# Altium footprint library 贴片元器件.PCBLIB: 208 footprints (part 5 of 13)
Each footprint in its own frame and in the unit in brackets; x right, y up, seen from the top. Pads: shape width x height; smd on the part's side, far side on the other; paste and mask are expansions set on the pad; w line width, h text height; cw(c..) or ccw(c..) is an arc to the next point about the centre after c.
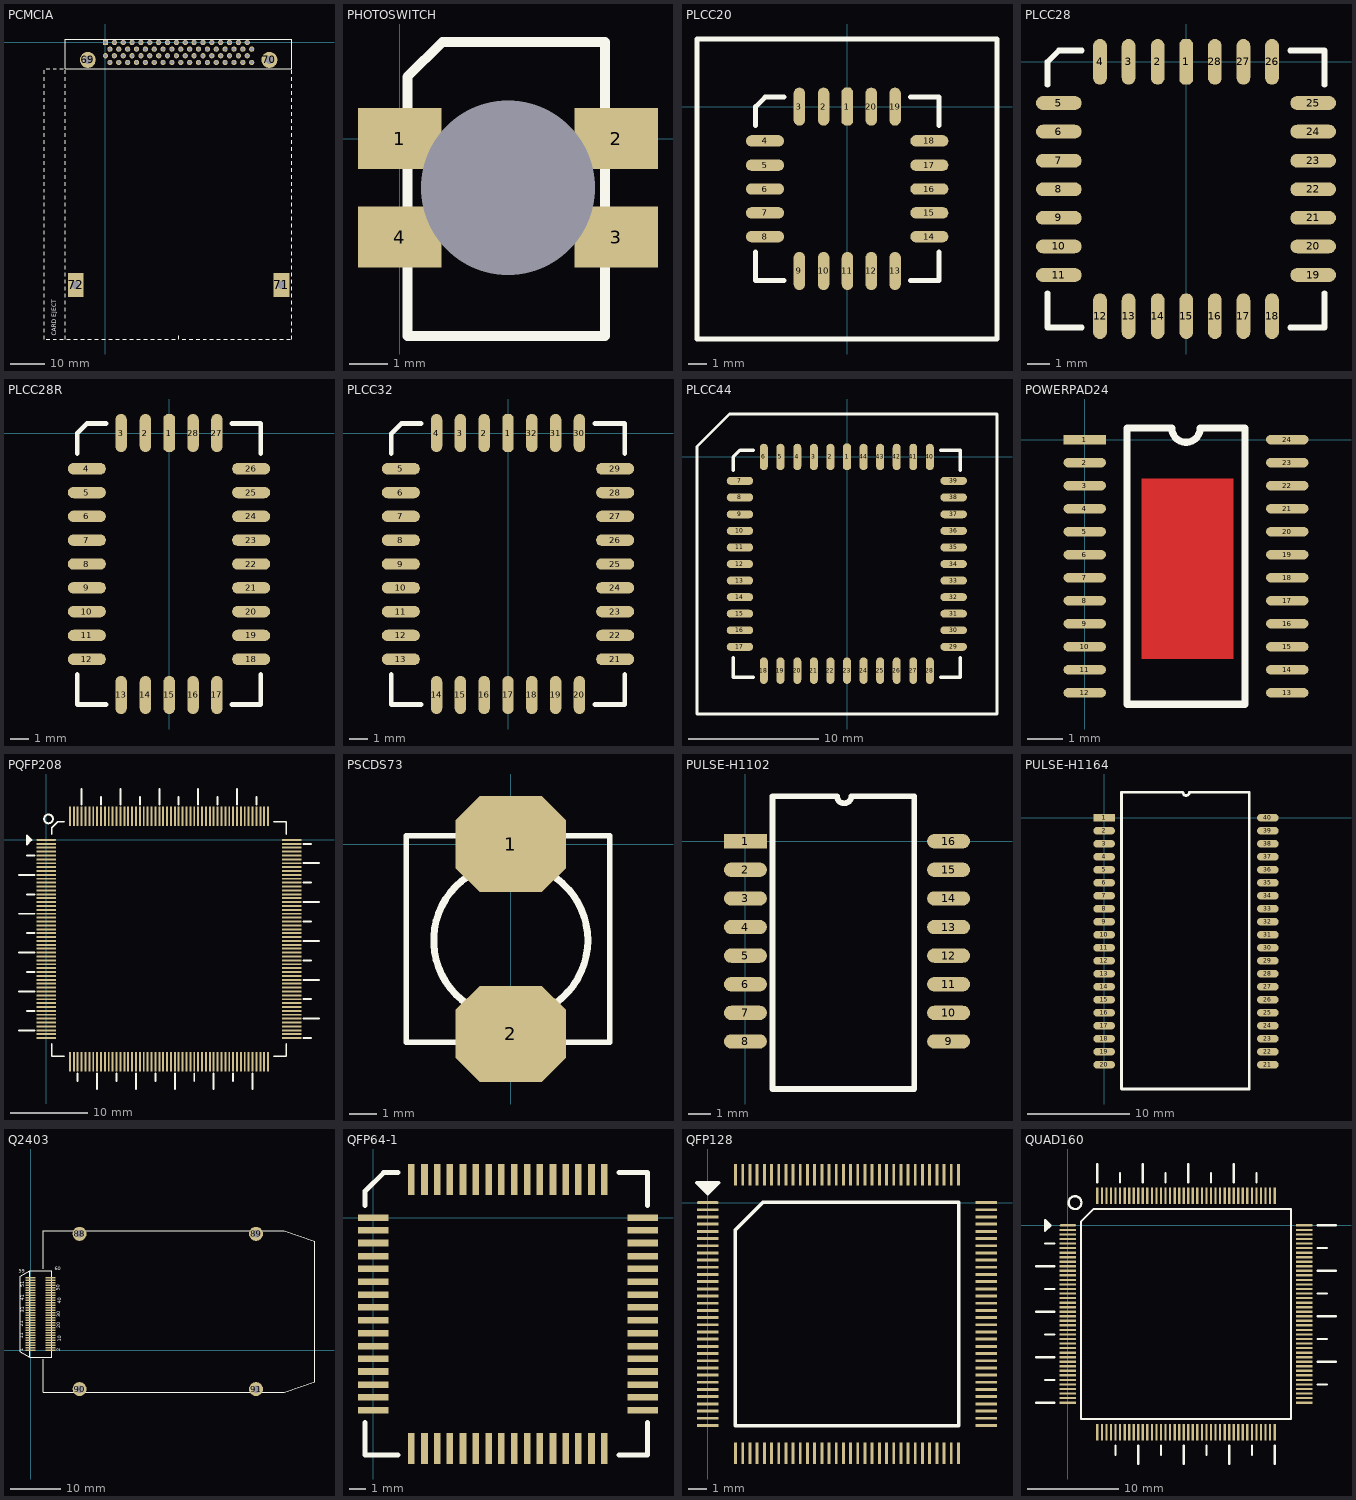
[diagram p4: the footprints below, top view; thin cyan lines are the x and y axes]

## PCMCIA [mm]
pads (72):
  rect 1.5x1.5 hole 1: 1(0,0)
  round 1.5 hole 1: 2(1.27,-1.905) 3(2.54,0) 4(3.81,-1.905) 5(5.08,0) 6(6.35,-1.905) 7(7.62,0) 8(8.89,-1.905) 9(10.16,0) 10(11.43,-1.905) 11(12.7,0) 12(13.97,-1.905) 13(15.24,0) 14(16.51,-1.905) 15(17.78,0) 16(19.05,-1.905) 17(20.32,0) 18(21.59,-1.905) 19(22.86,0) 20(24.13,-1.905) 21(25.4,0) 22(26.67,-1.905) 23(27.94,0) 24(29.21,-1.905) 25(30.48,0) 26(31.75,-1.905) 27(33.02,0) 28(34.29,-1.905) 29(35.56,0) 30(36.83,-1.905) 31(38.1,0) 32(39.37,-1.905) 33(40.64,0) 34(41.91,-1.905) 35(0,-3.81) 36(1.27,-5.715) 37(2.54,-3.81) 38(3.81,-5.715) 39(5.08,-3.81) 40(6.35,-5.715) 41(7.62,-3.81) 42(8.89,-5.715) 43(10.16,-3.81) 44(11.43,-5.715) 45(12.7,-3.81) 46(13.97,-5.715) 47(15.24,-3.81) 48(16.51,-5.715) 49(17.78,-3.81) 50(19.05,-5.715) 51(20.32,-3.81) 52(21.59,-5.715) 53(22.86,-3.81) 54(24.13,-5.715) 55(25.4,-3.81) 56(26.67,-5.715) 57(27.94,-3.81) 58(29.21,-5.715) 59(30.48,-3.81) 60(31.75,-5.715) 61(33.02,-3.81) 62(34.29,-5.715) 63(35.56,-3.81) 64(36.83,-5.715) 65(38.1,-3.81) 66(39.37,-5.715) 67(40.64,-3.81) 68(41.91,-5.715)
  round 4.6 hole 2.3: 69(-5.08,-5.015) 70(46.99,-5.015)
  rect 4.5x7 hole 2.3: 71(50.455,-69.515) 72(-8.545,-69.515)
TopOverlay:
  drawing of 160 lines, arcs and shapes, not listed
  text "CARD EJECT" at -14.045,-84 h1.27
BottomOverlay:
  text "1" at -1,-0.5 h1.02
  text "2" at 0.27,-2.405 h1.02
  text "35" at -1,-4.31 h1.02
  text "36" at 0.27,-6.215 h1.02

## PHOTOSWITCH [mil]
pads (5):
  rect 0x0 hole 177.16: 0(110,-50)
  rect 85x62 smd: 1(0,0) 2(220,0) 3(220,-100) 4(0,-100)
TopOverlay:
  lines w10: 7.87,-200.79 7.87,62.99 43.31,98.42 208.66,98.42 208.66,-200.79 7.87,-200.79

## PLCC20 [mil]
pads (20):
  oct 24x80 smd: 1(0,0)
  oval 24x80 smd: 2(-50,0) 3(-101,0) 9(-101,-345) 10(-50,-345) 11(0,-345) 12(50,-345) 13(100,-345) 19(100,0) 20(50,0)
  oval 80x24 smd: 4(-173,-72) 5(-173,-123) 6(-173,-173) 7(-173,-223) 8(-173,-273) 14(172,-273) 15(172,-223) 16(172,-173) 17(172,-123) 18(172,-72)
TopOverlay:
  lines w10: -193,-305 -193,-365 -133,-365 ; -193,-40 -193,0 -173,20 -133,20 ; 132,-365 192,-365 192,-305 ; 132,20 192,20 192,-40 ; -315.92,-487.92 -315.92,142 314,142 314,-487.92 -315.92,-487.92

## PLCC28 [mil]
pads (28):
  oct 24x80 smd: 1(0,0)
  oval 24x80 smd: 2(-50,0) 3(-101,0) 4(-151,0) 12(-151,-445) 13(-101,-445) 14(-50,-445) 15(0,-445) 16(50,-445) 17(100,-445) 18(150,-445) 26(150,0) 27(100,0) 28(50,0)
  oval 80x24 smd: 5(-223,-72) 6(-223,-122) 7(-223,-173) 8(-223,-223) 9(-223,-273) 10(-223,-323) 11(-223,-373) 19(222,-373) 20(222,-323) 21(222,-273) 22(222,-223) 23(222,-173) 24(222,-122) 25(222,-72)
TopOverlay:
  lines w10: -243,-405 -243,-465 -183,-465 ; -243,-40 -243,0 -223,20 -183,20 ; 182,-465 242,-465 242,-405 ; 182,20 242,20 242,-40

## PLCC28R [mil]
pads (28):
  oct 24x80 smd: 1(0,0)
  oval 24x80 smd: 2(-50,0) 3(-101,0) 13(-101,-550) 14(-50,-550) 15(0,-550) 16(50,-550) 17(100,-550) 27(100,0) 28(50,0)
  oval 80x24 smd: 4(-173,-75) 5(-173,-125) 6(-173,-175) 7(-173,-225) 8(-173,-275) 9(-173,-325) 10(-173,-375) 11(-173,-425) 12(-173,-475) 18(172,-475) 19(172,-425) 20(172,-375) 21(172,-325) 22(172,-275) 23(172,-225) 24(172,-175) 25(172,-125) 26(172,-75)
TopOverlay:
  lines w10: -193,-507 -193,-570 -133,-570 ; -193,-43 -193,0 -173,20 -133,20 ; 132,-570 192,-570 192,-507 ; 132,20 192,20 192,-43

## PLCC32 [mil]
pads (32):
  oct 24x80 smd: 1(0,0)
  oval 24x80 smd: 2(-50,0) 3(-100,0) 4(-150,0) 14(-150,-550) 15(-100,-550) 16(-50,-550) 17(0,-550) 18(50,-550) 19(100,-550) 20(150,-550) 30(150,0) 31(100,0) 32(50,0)
  oval 80x24 smd: 5(-225,-75) 6(-225,-125) 7(-225,-175) 8(-225,-225) 9(-225,-275) 10(-225,-325) 11(-225,-375) 12(-225,-425) 13(-225,-475) 21(225,-475) 22(225,-425) 23(225,-375) 24(225,-325) 25(225,-275) 26(225,-225) 27(225,-175) 28(225,-125) 29(225,-75)
TopOverlay:
  lines w10: -245,-507 -245,-570 -182,-570 ; -245,-43 -245,-1 -224,20 -182,20 ; 182,-570 245,-570 245,-507 ; 182,20 245,20 245,-43

## PLCC44 [mil]
pads (44):
  oct 24x80 smd: 1(0,0)
  oval 24x80 smd: 2(-50,0) 3(-100,0) 4(-150,0) 5(-201,0) 6(-251,0) 18(-251,-645) 19(-201,-645) 20(-150,-645) 21(-100,-645) 22(-50,-645) 23(0,-645) 24(50,-645) 25(100,-645) 26(150,-645) 27(200,-645) 28(250,-645) 40(250,0) 41(200,0) 42(150,0) 43(100,0) 44(50,0)
  oval 80x24 smd: 7(-323,-72) 8(-323,-122) 9(-323,-173) 10(-323,-223) 11(-323,-273) 12(-323,-323) 13(-323,-373) 14(-323,-423) 15(-323,-473) 16(-323,-523) 17(-323,-573) 29(322,-573) 30(322,-523) 31(322,-473) 32(322,-423) 33(322,-373) 34(322,-323) 35(322,-273) 36(322,-223) 37(322,-173) 38(322,-122) 39(322,-72)
TopOverlay:
  lines w8: -452.76,-775.76 452.76,-775.76 452.76,129.76 -354.33,129.76 -452.76,31.33 -452.76,-775.76
  lines w10: -343,-605 -343,-665 -283,-665 ; -343,-40 -343,0 -323,20 -283,20 ; 282,-665 342,-665 342,-605 ; 282,20 342,20 342,-40

## POWERPAD24 [mm]
pads (24):
  rect 1.2x0.27 smd: 1(0,0)
  oval 1.2x0.27 smd: 2(0,-0.65) 3(0,-1.3) 4(0,-1.95) 5(0,-2.6) 6(0,-3.25) 7(0,-3.9) 8(0,-4.55) 9(0,-5.2) 10(0,-5.85) 11(0,-6.5) 12(0,-7.15) 13(5.72,-7.15) 14(5.72,-6.5) 15(5.72,-5.85) 16(5.72,-5.2) 17(5.72,-4.55) 18(5.72,-3.9) 19(5.72,-3.25) 20(5.72,-2.6) 21(5.72,-1.95) 22(5.72,-1.3) 23(5.72,-0.65) 24(5.72,0)
TopLayer:
  rectangle: 1.6,-6.2 4.2,-1.1
TopOverlay:
  lines w0.2: 1.197,-7.475 4.523,-7.475 4.523,0.325 3.26,0.325 cw(c2.86,0.325) 2.46,0.325 1.197,0.325 1.197,-7.475

## PQFP208 [mm]
pads (208):
  oval 2.5x0.25 smd: 1(0,0)
  rect 2.5x0.25 smd: 2(0,-0.5) 3(0,-1) 4(0,-1.5) 5(0,-2) 6(0,-2.5) 7(0,-3) 8(0,-3.5) 9(0,-4) 10(0,-4.5) 11(0,-5) 12(0,-5.5) 13(0,-6) 14(0,-6.5) 15(0,-7) 16(0,-7.5) 17(0,-8) 18(0,-8.5) 19(0,-9) 20(0,-9.5) 21(0,-10) 22(0,-10.5) 23(0,-11) 24(0,-11.5) 25(0,-12) 26(0,-12.5) 27(0,-13) 28(0,-13.5) 29(0,-14) 30(0,-14.5) 31(0,-15) 32(0,-15.5) 33(0,-16) 34(0,-16.5) 35(0,-17) 36(0,-17.5) 37(0,-18) 38(0,-18.5) 39(0,-19) 40(0,-19.5) 41(0,-20) 42(0,-20.5) 43(0,-21) 44(0,-21.5) 45(0,-22) 46(0,-22.5) 47(0,-23) 48(0,-23.5) 49(0,-24) 50(0,-24.5) 51(0,-25) 52(0,-25.5) 105(31.6,-25.5) 106(31.6,-25) 107(31.6,-24.5) 108(31.6,-24) 109(31.6,-23.5) 110(31.6,-23) 111(31.6,-22.5) 112(31.6,-22) 113(31.6,-21.5) 114(31.6,-21) 115(31.6,-20.5) 116(31.6,-20) 117(31.6,-19.5) 118(31.6,-19) 119(31.6,-18.5) 120(31.6,-18) 121(31.6,-17.5) 122(31.6,-17) 123(31.6,-16.5) 124(31.6,-16) 125(31.6,-15.5) 126(31.6,-15) 127(31.6,-14.5) 128(31.6,-14) 129(31.6,-13.5) 130(31.6,-13) 131(31.6,-12.5) 132(31.6,-12) 133(31.6,-11.5) 134(31.6,-11) 135(31.6,-10.5) 136(31.6,-10) 137(31.6,-9.5) 138(31.6,-9) 139(31.6,-8.5) 140(31.6,-8) 141(31.6,-7.5) 142(31.6,-7) 143(31.6,-6.5) 144(31.6,-6) 145(31.6,-5.5) 146(31.6,-5) 147(31.6,-4.5) 148(31.6,-4) 149(31.6,-3.5) 150(31.6,-3) 151(31.6,-2.5) 152(31.6,-2) 153(31.6,-1.5) 154(31.6,-1) 155(31.6,-0.5) 156(31.6,0)
  rect 0.25x2.5 smd: 53(3.05,-28.55) 54(3.55,-28.55) 55(4.05,-28.55) 56(4.55,-28.55) 57(5.05,-28.55) 58(5.55,-28.55) 59(6.05,-28.55) 60(6.55,-28.55) 61(7.05,-28.55) 62(7.55,-28.55) 63(8.05,-28.55) 64(8.55,-28.55) 65(9.05,-28.55) 66(9.55,-28.55) 67(10.05,-28.55) 68(10.55,-28.55) 69(11.05,-28.55) 70(11.55,-28.55) 71(12.05,-28.55) 72(12.55,-28.55) 73(13.05,-28.55) 74(13.55,-28.55) 75(14.05,-28.55) 76(14.55,-28.55) 77(15.05,-28.55) 78(15.55,-28.55) 79(16.05,-28.55) 80(16.55,-28.55) 81(17.05,-28.55) 82(17.55,-28.55) 83(18.05,-28.55) 84(18.55,-28.55) 85(19.05,-28.55) 86(19.55,-28.55) 87(20.05,-28.55) 88(20.55,-28.55) 89(21.05,-28.55) 90(21.55,-28.55) 91(22.05,-28.55) 92(22.55,-28.55) 93(23.05,-28.55) 94(23.55,-28.55) 95(24.05,-28.55) 96(24.55,-28.55) 97(25.05,-28.55) 98(25.55,-28.55) 99(26.05,-28.55) 100(26.55,-28.55) 101(27.05,-28.55) 102(27.55,-28.55) 103(28.05,-28.55) 104(28.55,-28.55) 157(28.55,3.05) 158(28.05,3.05) 159(27.55,3.05) 160(27.05,3.05) 161(26.55,3.05) 162(26.05,3.05) 163(25.55,3.05) 164(25.05,3.05) 165(24.55,3.05) 166(24.05,3.05) 167(23.55,3.05) 168(23.05,3.05) 169(22.55,3.05) 170(22.05,3.05) 171(21.55,3.05) 172(21.05,3.05) 173(20.55,3.05) 174(20.05,3.05) 175(19.55,3.05) 176(19.05,3.05) 177(18.55,3.05) 178(18.05,3.05) 179(17.55,3.05) 180(17.05,3.05) 181(16.55,3.05) 182(16.05,3.05) 183(15.55,3.05) 184(15.05,3.05) 185(14.55,3.05) 186(14.05,3.05) 187(13.55,3.05) 188(13.05,3.05) 189(12.55,3.05) 190(12.05,3.05) 191(11.55,3.05) 192(11.05,3.05) 193(10.55,3.05) 194(10.05,3.05) 195(9.55,3.05) 196(9.05,3.05) 197(8.55,3.05) 198(8.05,3.05) 199(7.55,3.05) 200(7.05,3.05) 201(6.55,3.05) 202(6.05,3.05) 203(5.55,3.05) 204(5.05,3.05) 205(4.55,3.05) 206(4.05,3.05) 207(3.55,3.05) 208(3.05,3.05)
TopOverlay:
  circle w0.254: c0.3,2.7 r0.566
  lines w0.2: 0.7,-26.2 0.7,-27.85 2.35,-27.85 ; 0.7,0.7 0.7,1.55 1.5,2.35 2.35,2.35 ; 29.25,-27.85 30.9,-27.85 30.9,-26.2 ; 29.25,2.35 30.9,2.35 30.9,0.7
  lines w0.254: -3.5,-24.5 -1.5,-24.5 ; -3.5,-19.5 -1.5,-19.5 ; -3.5,-14.5 -1.5,-14.5 ; -3.5,-9.5 -1.5,-9.5 ; -3.5,-4.5 -1.5,-4.5 ; -2.5,-22 -1.5,-22 ; -2.5,-17 -1.5,-17 ; -2.5,-12 -1.5,-12 ; -2.5,-7 -1.5,-7 ; -2.5,-2 -1.5,-2 ; -2.4,-0.2 -2.2,0 -2.5,0.3 -2.5,0.6 ; 4.05,-31.05 4.05,-30.05 ; 4.55,4.55 4.55,6.55 ; 6.55,-32.05 6.55,-30.05 ; 7.05,4.55 7.05,5.55 ; 9.05,-31.05 9.05,-30.05 ; 9.55,4.55 9.55,6.55 ; 11.55,-32.05 11.55,-30.05 ; 12.05,4.55 12.05,5.55 ; 14.05,-31.05 14.05,-30.05 ; 14.55,4.55 14.55,6.55 ; 16.55,-32.05 16.55,-30.05 ; 17.05,4.55 17.05,5.55 ; 19.05,-31.05 19.05,-30.05 ; 19.55,4.55 19.55,6.55 ; 21.55,-32.05 21.55,-30.05 ; 22.05,4.55 22.05,5.55 ; 24.05,-31.05 24.05,-30.05 ; 24.55,4.55 24.55,6.55 ; 26.55,-32.05 26.55,-30.05 ; 27.05,4.55 27.05,5.55 ; 33.1,-25.5 34.1,-25.5 ; 33.1,-23 35.1,-23 ; 33.1,-20.5 34.1,-20.5 ; 33.1,-18 35.1,-18 ; 33.1,-15.5 34.1,-15.5 ; 33.1,-13 35.1,-13 ; 33.1,-10.5 34.1,-10.5 ; 33.1,-8 35.1,-8 ; 33.1,-5.5 34.1,-5.5 ; 33.1,-3 35.1,-3 ; 33.1,-0.5 34.1,-0.5 ; -2.5,0.6 -1.9,0 -2.5,-0.6 -2.5,0.6

## PSCDS73 [mm]
pads (2):
  oct 4x3.5 smd: 1(0,0) 2(0,-6.9)
TopOverlay:
  circle w0.254: c0,-3.5 r2.8
  lines w0.2: -3.8,-7.2 -3.8,0.3 3.6,0.3 3.6,-7.2 -3.8,-7.2

## PULSE-H1102 [mil]
pads (16):
  rect 75x25 smd: 1(0,0)
  oval 75x25 smd: 2(0,-50) 3(0,-100) 4(0,-150) 5(0,-200) 6(0,-250) 7(0,-300) 8(0,-350) 9(355,-350) 10(355,-300) 11(355,-250) 12(355,-200) 13(355,-150) 14(355,-100) 15(355,-50) 16(355,0)
TopOverlay:
  lines w10: 47.24,-433.07 295.28,-433.07 295.28,78.74 185.04,78.74 cw(c172.54,78.74) 160.04,78.74 47.24,78.74 47.24,-433.07

## PULSE-H1164 [mil]
pads (40):
  rect 83x30 smd: 1(0,0)
  oval 83x30 smd: 2(0,-50) 3(0,-100) 4(0,-150) 5(0,-200) 6(0,-250) 7(0,-300) 8(0,-350) 9(0,-400) 10(0,-450) 11(0,-500) 12(0,-550) 13(0,-600) 14(0,-650) 15(0,-700) 16(0,-750) 17(0,-800) 18(0,-850) 19(0,-900) 20(0,-950) 21(629.92,-950) 22(629.92,-900) 23(629.92,-850) 24(629.92,-800) 25(629.92,-750) 26(629.92,-700) 27(629.92,-650) 28(629.92,-600) 29(629.92,-550) 30(629.92,-500) 31(629.92,-450) 32(629.92,-400) 33(629.92,-350) 34(629.92,-300) 35(629.92,-250) 36(629.92,-200) 37(629.92,-150) 38(629.92,-100) 39(629.92,-50) 40(629.92,0)
TopOverlay:
  lines w10: 66.93,-1043.31 559.05,-1043.31 559.05,98.42 328.15,98.42 cw(c315.65,98.42) 303.15,98.42 66.93,98.42 66.93,-1043.31

## Q2403 [mm]
pads (67):
  rect 2x0.3 smd: 1(0,0) 2(4,0) 3(0,0.5) 4(4,0.5) 5(0,1) 6(4,1) 7(0,1.5) 8(4,1.5) 9(0,2) 10(4,2) 11(0,2.5) 12(4,2.5) 13(0,3) 14(4,3) 15(0,3.5) 16(4,3.5) 17(0,4) 18(4,4) 19(0,4.5) 20(4,4.5) 21(0,5) 22(4,5) 23(0,5.5) 24(4,5.5) 25(0,6) 26(4,6) 27(0,6.5) 28(4,6.5) 29(0,7) 30(4,7) 31(0,7.5) 32(4,7.5) 33(0,8) 34(4,8) 35(0,8.5) 36(4,8.5) 37(0,9) 38(4,9) 39(0,9.5) 40(4,9.5) 41(0,10) 42(4,10) 43(0,10.5) 44(4,10.5) 45(0,11) 46(4,11) 47(0,11.5) 48(4,11.5) 49(0,12) 50(4,12) 51(0,12.5) 52(4,12.5) 53(0,13) 54(4,13) 55(0,13.5) 56(4,13.5) 57(0,14) 58(4,14) 59(0,14.5) 60(4,14.5)
  rect 0x0 smd: 10(50.996,20.95) 11(49.546,19.05) 12(49.546,22.85)
  round 2.8 hole 1.5: 88(9.766,23.22) 89(44.916,23.22) 90(9.766,-7.72) 91(44.916,-7.72)
TopOverlay:
  lines w0.2: 2.496,-1.75 2.496,-8.35 50.496,-8.35 56.596,-6.25 56.596,21.75 50.496,23.85 2.496,23.85 2.496,16.25 ; -0.204,-1.35 4.196,-1.35 4.196,15.85 -0.204,15.85 ; -0.204,-1.35 -0.204,15.85 ; -0.204,-1.35 -2.004,-0.25 -2.004,14.75 -0.204,15.85
  text "59" at -2.299,15.473 h0.76
  text "60" at 4.813,15.981 h0.76
  text "1" at -1.41,-0.148 h0.76
  text "2" at 5.956,-0.148 h0.76
  text "11" at -1.41,2.265 h0.76
  text "21" at -1.41,4.678 h0.76
  text "41" at -1.283,9.885 h0.76
  text "31" at -1.283,7.472 h0.76
  text "40" at 6.083,9.25 h0.76
  text "20" at 5.956,4.424 h0.76
  text "30" at 5.956,6.583 h0.76
  text "10" at 6.083,1.757 h0.76
  text "51" at -1.283,12.552 h0.76
  text "50" at 5.829,11.917 h0.76

## QFP64-1 [mil]
pads (64):
  rect 75x16 smd: 1(0,0) 2(0,-31) 3(0,-62) 4(0,-94) 5(0,-125) 6(0,-157) 7(0,-188) 8(0,-219) 9(0,-251) 10(0,-282) 11(0,-314) 12(0,-345) 13(0,-376) 14(0,-408) 15(0,-439) 16(0,-471) 33(658,-471) 34(658,-439) 35(658,-408) 36(658,-376) 37(658,-345) 38(658,-314) 39(658,-282) 40(658,-251) 41(658,-219) 42(658,-188) 43(658,-157) 44(658,-125) 45(658,-94) 46(658,-62) 47(658,-31) 48(658,0)
  rect 16x75 smd: 17(93,-564) 18(125,-564) 19(156,-564) 20(187,-564) 21(219,-564) 22(250,-564) 23(282,-564) 24(313,-564) 25(344,-564) 26(376,-564) 27(407,-564) 28(439,-564) 29(470,-564) 30(501,-564) 31(533,-564) 32(564,-564) 49(564,93) 50(533,93) 51(501,93) 52(470,93) 53(439,93) 54(407,93) 55(376,93) 56(344,93) 57(313,93) 58(282,93) 59(250,93) 60(219,93) 61(187,93) 62(156,93) 63(125,93) 64(93,93)
TopOverlay:
  lines w12: -20,-500 -20,-580 60,-580 ; -20,30 -20,65 25,110 60,110 ; 600,-580 670,-580 670,-500 ; 600,110 670,110 670,30

## QFP128 [mm]
pads (128):
  oval 1.2x0.16 smd: 1(0,0)
  rect 1.2x0.16 smd: 2(0,-0.4) 3(0,-0.8) 4(0,-1.2) 5(0,-1.6) 6(0,-2) 7(0,-2.4) 8(0,-2.8) 9(0,-3.2) 10(0,-3.6) 11(0,-4) 12(0,-4.4) 13(0,-4.8) 14(0,-5.2) 15(0,-5.6) 16(0,-6) 17(0,-6.4) 18(0,-6.8) 19(0,-7.2) 20(0,-7.6) 21(0,-8) 22(0,-8.4) 23(0,-8.8) 24(0,-9.2) 25(0,-9.6) 26(0,-10) 27(0,-10.4) 28(0,-10.8) 29(0,-11.2) 30(0,-11.6) 31(0,-12) 32(0,-12.4) 65(15.5,-12.4) 66(15.5,-12) 67(15.5,-11.6) 68(15.5,-11.2) 69(15.5,-10.8) 70(15.5,-10.4) 71(15.5,-10) 72(15.5,-9.6) 73(15.5,-9.2) 74(15.5,-8.8) 75(15.5,-8.4) 76(15.5,-8) 77(15.5,-7.6) 78(15.5,-7.2) 79(15.5,-6.8) 80(15.5,-6.4) 81(15.5,-6) 82(15.5,-5.6) 83(15.5,-5.2) 84(15.5,-4.8) 85(15.5,-4.4) 86(15.5,-4) 87(15.5,-3.6) 88(15.5,-3.2) 89(15.5,-2.8) 90(15.5,-2.4) 91(15.5,-2) 92(15.5,-1.6) 93(15.5,-1.2) 94(15.5,-0.8) 95(15.5,-0.4) 96(15.5,0)
  rect 0.16x1.2 smd: 33(1.55,-13.95) 34(1.95,-13.95) 35(2.35,-13.95) 36(2.75,-13.95) 37(3.15,-13.95) 38(3.55,-13.95) 39(3.95,-13.95) 40(4.35,-13.95) 41(4.75,-13.95) 42(5.15,-13.95) 43(5.55,-13.95) 44(5.95,-13.95) 45(6.35,-13.95) 46(6.75,-13.95) 47(7.15,-13.95) 48(7.55,-13.95) 49(7.95,-13.95) 50(8.35,-13.95) 51(8.75,-13.95) 52(9.15,-13.95) 53(9.55,-13.95) 54(9.95,-13.95) 55(10.35,-13.95) 56(10.75,-13.95) 57(11.15,-13.95) 58(11.55,-13.95) 59(11.95,-13.95) 60(12.35,-13.95) 61(12.75,-13.95) 62(13.15,-13.95) 63(13.55,-13.95) 64(13.95,-13.95) 97(13.95,1.55) 98(13.55,1.55) 99(13.15,1.55) 100(12.75,1.55) 101(12.35,1.55) 102(11.95,1.55) 103(11.55,1.55) 104(11.15,1.55) 105(10.75,1.55) 106(10.35,1.55) 107(9.95,1.55) 108(9.55,1.55) 109(9.15,1.55) 110(8.75,1.55) 111(8.35,1.55) 112(7.95,1.55) 113(7.55,1.55) 114(7.15,1.55) 115(6.75,1.55) 116(6.35,1.55) 117(5.95,1.55) 118(5.55,1.55) 119(5.15,1.55) 120(4.75,1.55) 121(4.35,1.55) 122(3.95,1.55) 123(3.55,1.55) 124(3.15,1.55) 125(2.75,1.55) 126(2.35,1.55) 127(1.95,1.55) 128(1.55,1.55)
TopOverlay:
  lines w0.2: 1.535,-12.415 13.965,-12.415 13.965,0.015 3.07,0.015 1.535,-1.52 1.535,-12.415
  lines w0.203: -0.4,1 0.5,1 ; -0.199,0.799 0.299,0.799 ; -0.171,0.671 0.171,0.671 ; -0.6,1.1 0.6,1.1 0,0.5 -0.6,1.1

## QUAD160 [mm]
pads (160):
  oval 1.8x0.254 smd: 1(0,0)
  rect 1.8x0.254 smd: 2(0,-0.5) 3(0,-1) 4(0,-1.5) 5(0,-2) 6(0,-2.5) 7(0,-3) 8(0,-3.5) 9(0,-4) 10(0,-4.5) 11(0,-5) 12(0,-5.5) 13(0,-6) 14(0,-6.5) 15(0,-7) 16(0,-7.5) 17(0,-8) 18(0,-8.5) 19(0,-9) 20(0,-9.5) 21(0,-10) 22(0,-10.5) 23(0,-11) 24(0,-11.5) 25(0,-12) 26(0,-12.5) 27(0,-13) 28(0,-13.5) 29(0,-14) 30(0,-14.5) 31(0,-15) 32(0,-15.5) 33(0,-16) 34(0,-16.5) 35(0,-17) 36(0,-17.5) 37(0,-18) 38(0,-18.5) 39(0,-19) 40(0,-19.5) 81(26,-19.5) 82(26,-19) 83(26,-18.5) 84(26,-18) 85(26,-17.5) 86(26,-17) 87(26,-16.5) 88(26,-16) 89(26,-15.5) 90(26,-15) 91(26,-14.5) 92(26,-14) 93(26,-13.5) 94(26,-13) 95(26,-12.5) 96(26,-12) 97(26,-11.5) 98(26,-11) 99(26,-10.5) 100(26,-10) 101(26,-9.5) 102(26,-9) 103(26,-8.5) 104(26,-8) 105(26,-7.5) 106(26,-7) 107(26,-6.5) 108(26,-6) 109(26,-5.5) 110(26,-5) 111(26,-4.5) 112(26,-4) 113(26,-3.5) 114(26,-3) 115(26,-2.5) 116(26,-2) 117(26,-1.5) 118(26,-1) 119(26,-0.5) 120(26,0)
  rect 0.254x1.8 smd: 41(3.25,-22.75) 42(3.75,-22.75) 43(4.25,-22.75) 44(4.75,-22.75) 45(5.25,-22.75) 46(5.75,-22.75) 47(6.25,-22.75) 48(6.75,-22.75) 49(7.25,-22.75) 50(7.75,-22.75) 51(8.25,-22.75) 52(8.75,-22.75) 53(9.25,-22.75) 54(9.75,-22.75) 55(10.25,-22.75) 56(10.75,-22.75) 57(11.25,-22.75) 58(11.75,-22.75) 59(12.25,-22.75) 60(12.75,-22.75) 61(13.25,-22.75) 62(13.75,-22.75) 63(14.25,-22.75) 64(14.75,-22.75) 65(15.25,-22.75) 66(15.75,-22.75) 67(16.25,-22.75) 68(16.75,-22.75) 69(17.25,-22.75) 70(17.75,-22.75) 71(18.25,-22.75) 72(18.75,-22.75) 73(19.25,-22.75) 74(19.75,-22.75) 75(20.25,-22.75) 76(20.75,-22.75) 77(21.25,-22.75) 78(21.75,-22.75) 79(22.25,-22.75) 80(22.75,-22.75) 121(22.75,3.25) 122(22.25,3.25) 123(21.75,3.25) 124(21.25,3.25) 125(20.75,3.25) 126(20.25,3.25) 127(19.75,3.25) 128(19.25,3.25) 129(18.75,3.25) 130(18.25,3.25) 131(17.75,3.25) 132(17.25,3.25) 133(16.75,3.25) 134(16.25,3.25) 135(15.75,3.25) 136(15.25,3.25) 137(14.75,3.25) 138(14.25,3.25) 139(13.75,3.25) 140(13.25,3.25) 141(12.75,3.25) 142(12.25,3.25) 143(11.75,3.25) 144(11.25,3.25) 145(10.75,3.25) 146(10.25,3.25) 147(9.75,3.25) 148(9.25,3.25) 149(8.75,3.25) 150(8.25,3.25) 151(7.75,3.25) 152(7.25,3.25) 153(6.75,3.25) 154(6.25,3.25) 155(5.75,3.25) 156(5.25,3.25) 157(4.75,3.25) 158(4.25,3.25) 159(3.75,3.25) 160(3.25,3.25)
TopOverlay:
  circle w0.254: c0.793,2.5 r0.707
  lines w0.2: 1.435,-21.315 24.565,-21.315 24.565,1.815 2.87,1.815 1.435,0.38 1.435,-21.315
  lines w0.254: -3.5,-19.5 -1.5,-19.5 ; -3.5,-14.5 -1.5,-14.5 ; -3.5,-9.5 -1.5,-9.5 ; -3.5,-4.5 -1.5,-4.5 ; -2.5,-17 -1.5,-17 ; -2.5,-12 -1.5,-12 ; -2.5,-7 -1.5,-7 ; -2.5,-2 -1.5,-2 ; -2.4,-0.2 -2.2,0 -2.5,0.3 -2.5,0.6 ; 3.25,4.75 3.25,6.75 ; 5.25,-25.25 5.25,-24.25 ; 5.75,4.75 5.75,5.75 ; 7.75,-26.25 7.75,-24.25 ; 8.25,4.75 8.25,6.75 ; 10.25,-25.25 10.25,-24.25 ; 10.75,4.75 10.75,5.75 ; 12.75,-26.25 12.75,-24.25 ; 13.25,4.75 13.25,6.75 ; 15.25,-25.25 15.25,-24.25 ; 15.75,4.75 15.75,5.75 ; 17.75,-26.25 17.75,-24.25 ; 18.25,4.75 18.25,6.75 ; 20.25,-25.25 20.25,-24.25 ; 20.75,4.75 20.75,5.75 ; 22.75,-26.25 22.75,-24.25 ; 27.5,-17.5 28.5,-17.5 ; 27.5,-15 29.5,-15 ; 27.5,-12.5 28.5,-12.5 ; 27.5,-10 29.5,-10 ; 27.5,-7.5 28.5,-7.5 ; 27.5,-5 29.5,-5 ; 27.5,-2.5 28.5,-2.5 ; 27.5,0 29.5,0 ; -2.5,0.6 -2.5,-0.6 -1.9,0 -2.5,0.6